# Altium footprint library Crystal 16MHz 20pF 40Ohms.PcbLib: 1 footprints
Each footprint in its own frame and in the unit in brackets; x right, y up, seen from the top. Pads: shape width x height; smd on the part's side, far side on the other; paste and mask are expansions set on the pad; w line width, h text height; cw(c..) or ccw(c..) is an arc to the next point about the centre after c.
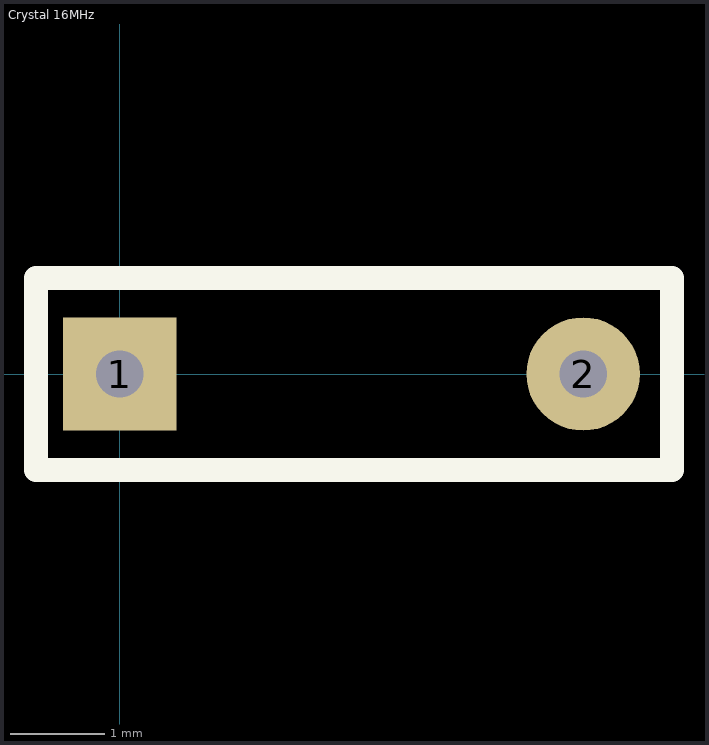
[diagram p0: the footprint, top view; thin cyan lines are the x and y axes]

## Crystal 16MHz [mm]
pads (2):
  rect 1.2x1.2 hole 0.5: 1(0,0)
  round 1.2 hole 0.5: 2(4.9,0)
Top Layer:
Top Overlay:
  lines w0.254: -0.889,-1.016 5.842,-1.016 5.842,1.016 -0.889,1.016 -0.889,-1.016
3D body "ECS-160-20-4X.STEP": height 3.5, standoff -12.7, extent -3.237,-2.325 8.113,2.325